# EAGLE library part C-GRID-09 (library sibosop-con-molex)
CONNECTOR wire to board 2.54 mm (0.100") pitch header
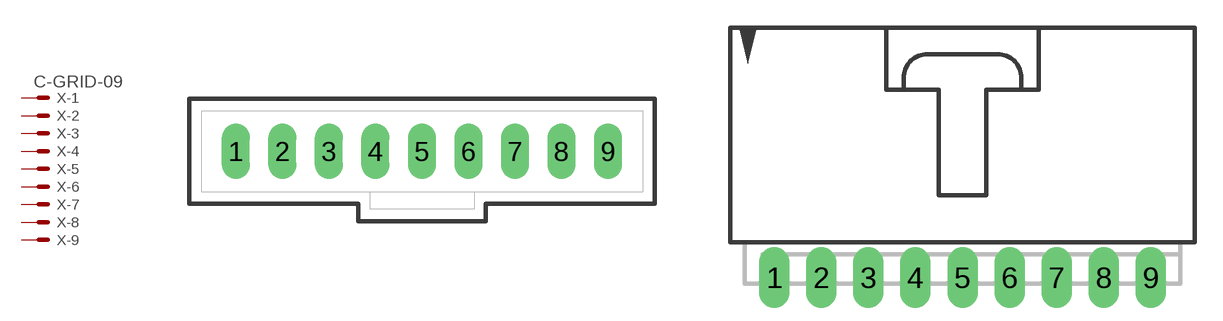
[diagram p48: symbol with the pads of 70543-09; footprints 70543-09, 70553-09]

Designator prefix X; gates -1=MV -2=M -3=M -4=M -5=M -6=M -7=M -8=M -9=M

## C-GRID-09-70543  [70543-09]
1  -1:S  pas
2  -2:S  pas
3  -3:S  pas
4  -4:S  pas
5  -5:S  pas
6  -6:S  pas
7  -7:S  pas
8  -8:S  pas
9  -9:S  pas

## C-GRID-09-70553  [70553-09]
Pads as for 70543-09

## C-GRID-09-74099  [74099-09]
Pads as for 70543-09

## C-GRID-09-15-91  [15-91-09]
Pads as for 70543-09

## Footprint 70543-09 (pad centres in mm)
C-Grid SL Connector vertical, 9 pin
drill 1.016 long: 1 -10.16,0; 2 -7.62,0; 3 -5.08,0; 4 -2.54,0; 5 0,0; 6 2.54,0; 7 5.08,0; 8 7.62,0; 9 10.16,0

## Footprint 70553-09 (pad centres in mm)
C-Grid SL Connector right angle, 9 pin
drill 1.092 long: 1 -10.16,-7.62; 2 -7.62,-7.62; 3 -5.08,-7.62; 4 -2.54,-7.62; 5 0,-7.62; 6 2.54,-7.62; 7 5.08,-7.62; 8 7.62,-7.62; 9 10.16,-7.62

## Footprint 74099-09 (pad centres in mm)
C-Grid SL Connector vertical SMD, 9 pin
smd 1.27 x 3.175: 1 -10.16,-2.223; 2 -7.62,2.223; 3 -5.08,-2.223; 4 -2.54,2.223; 5 0,-2.223; 6 2.54,2.223; 7 5.08,-2.223; 8 7.62,2.223; 9 10.16,-2.223

## Footprint 15-91-09 (pad centres in mm)
C-Grid SL Connector right angle SMD, 9 pin
smd 1.651 x 5.334: 1 -10.16,-10.795; 2 -7.62,-10.795; 3 -5.08,-10.795; 4 -2.54,-10.795; 5 0,-10.795; 6 2.54,-10.795; 7 5.08,-10.795; 8 7.62,-10.795; 9 10.16,-10.795
hole 3.404 at -11.557,0.838
hole 3.404 at 11.557,0.838